# EAGLE library part ATMEGA8_DIL (library DMClock2018)
Atmel ATmega__8 AVR 8-bit microcontroller (DIL package)
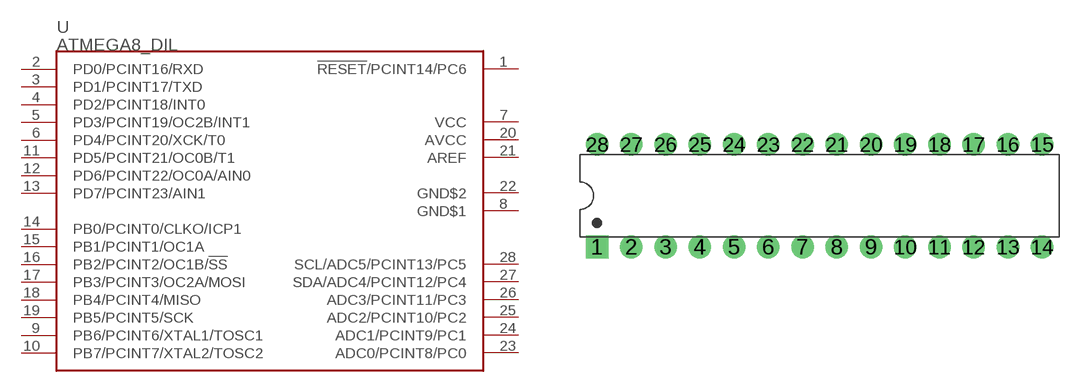
[diagram p2: symbol with the pads of DIL28; footprint DIL28]

Designator prefix U

## ATMEGA8_DIL  [DIL28]
1  !RESET!/PCINT14/PC6
2  PD0/PCINT16/RXD
3  PD1/PCINT17/TXD
4  PD2/PCINT18/INT0
5  PD3/PCINT19/OC2B/INT1
6  PD4/PCINT20/XCK/T0
7  VCC
8  GND$1
9  PB6/PCINT6/XTAL1/TOSC1
10  PB7/PCINT7/XTAL2/TOSC2
11  PD5/PCINT21/OC0B/T1
12  PD6/PCINT22/OC0A/AIN0
13  PD7/PCINT23/AIN1
14  PB0/PCINT0/CLKO/ICP1
15  PB1/PCINT1/OC1A
16  PB2/PCINT2/OC1B/!SS!
17  PB3/PCINT3/OC2A/MOSI
18  PB4/PCINT4/MISO
19  PB5/PCINT5/SCK
20  AVCC
21  AREF
22  GND$2
23  ADC0/PCINT8/PC0
24  ADC1/PCINT9/PC1
25  ADC2/PCINT10/PC2
26  ADC3/PCINT11/PC3
27  SDA/ADC4/PCINT12/PC4
28  SCL/ADC5/PCINT13/PC5

## Footprint DIL28 (pad centres in mm)
drill 0.8 pad 1.676 square: 1 -16.51,-3.81
drill 0.8 pad 1.676 round: 2 -13.97,-3.81; 3 -11.43,-3.81; 4 -8.89,-3.81; 5 -6.35,-3.81; 6 -3.81,-3.81; 7 -1.27,-3.81; 8 1.27,-3.81; 9 3.81,-3.81; 10 6.35,-3.81; 11 8.89,-3.81; 12 11.43,-3.81; 13 13.97,-3.81; 14 16.51,-3.81; 15 16.51,3.81; 16 13.97,3.81; 17 11.43,3.81; 18 8.89,3.81; 19 6.35,3.81; 20 3.81,3.81; 21 1.27,3.81; 22 -1.27,3.81; 23 -3.81,3.81; 24 -6.35,3.81; 25 -8.89,3.81; 26 -11.43,3.81; 27 -13.97,3.81; 28 -16.51,3.81